# Altium integrated library micro_crystal.IntLib: 1 symbol
Pins are listed as number, name and electrical type; pins without a type are passive.

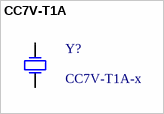
[diagram p0: symbol CC7V-T1A]

## CC7V-T1A
designator Y?, comment CC7V-T1A-x
Crystals 32.768 kHz 12.5 pF +/-20 PPM -55/+125C
footprint CC7V-T1A
pins: 1, 2